# Altium footprint library inductors.PCBLIB: 83 footprints (part 2 of 6)
Each footprint in its own frame and in the unit in brackets; x right, y up, seen from the top. Pads: shape width x height; smd on the part's side, far side on the other; paste and mask are expansions set on the pad; w line width, h text height; cw(c..) or ccw(c..) is an arc to the next point about the centre after c.
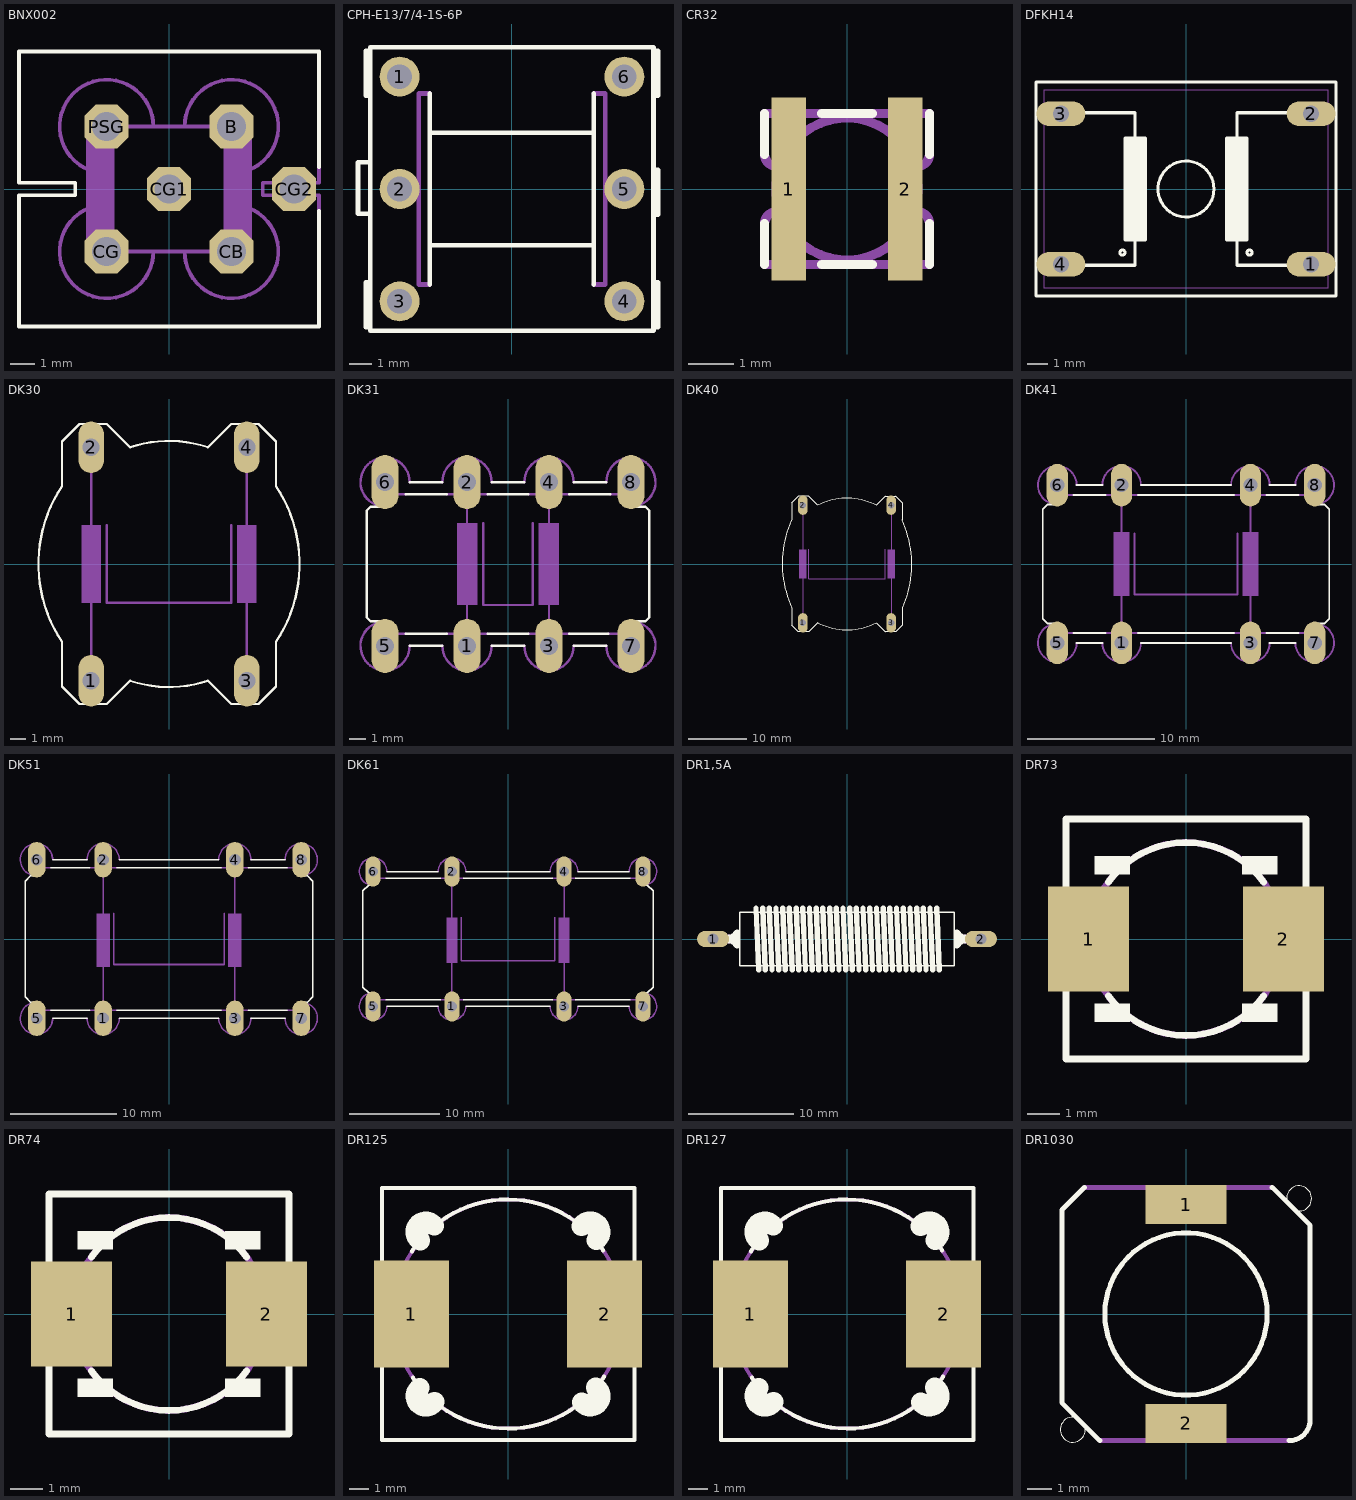
[diagram p1: the footprints below, top view; thin cyan lines are the x and y axes]

## BNX002 [mil]
pads (6):
  oct 70.5x70.5 hole 47: B(100,100) CB(100,-100) CG(-100,-100) CG1(0,0) CG2(200,0) PSG(-100,100)
Top Overlay:
  lines w6: 240,-35 240,-220 -240,-220 -240,-10 -150,-10 -150,10 -240,10 -240,220 240,220 240,35
Mechanical 16:
  rectangle: 90,-100 130,100
  rectangle: -130,-100 -90,100
  lines w6: -100,-25 ccw(c-100,-100) -25,-100 ; -100,25 cw(c-100,100) -25,100 ; 25,-100 ccw(c100,-100) 100,-25 ; 25,100 cw(c100,100) 100,25 ; 240,-35 240,-10 150,-10 150,10 240,10 240,35 ; -90,-100 90,-100 ; -90,-100 -90,100 ; -90,-100 -130,-100 -130,100 -90,100 ; -90,100 90,100 ; 90,-100 130,-100 130,100 90,100 ; 90,-100 90,100
  text "B" at 175,150 h77.5

## CPH-E13/7/4-1S-6P [mil]
pads (6):
  round 70 hole 43.31: 1(-196.85,196.85) 2(-196.85,0) 3(-196.85,-196.85) 4(196.85,-196.85) 5(196.85,0) 6(196.85,196.85)
Top Overlay:
  lines w8: -250,-242.13 -255.91,-242.13 -255.91,-163.39 -250,-163.39 ; -250,-43.31 -269.69,-43.31 -269.69,47.24 -250,47.24 ; -250,163.39 -255.91,163.39 -255.91,242.13 -250,242.13 ; -143.7,-167.32 -143.7,-98.43 ; -143.7,167.32 -143.7,98.43 ; 143.7,-167.32 143.7,-98.43 ; 143.7,167.32 143.7,98.43 ; 250,-242.13 255.91,-242.13 255.91,-163.39 250,-163.39 ; 250,-45.28 255.91,-45.28 255.91,33.46 250,33.46 ; 250,163.39 255.91,163.39 255.91,242.13 250,242.13 ; -143.7,-98.43 -143.7,98.43 ; -143.7,-98.43 143.7,-98.43 ; -143.7,98.43 143.7,98.43 ; 143.7,-98.43 143.7,98.43 ; -248.03,-248.03 248.03,-248.03 248.03,248.03 -248.03,248.03 -248.03,-248.03
Mechanical 16:
  lines w8: -143.7,-167.32 -163.39,-167.32 -163.39,167.32 -143.7,167.32 ; 143.7,-167.32 163.39,-167.32 163.39,167.32 143.7,167.32

## CR32 [mm]
pads (2):
  rect 0.75x4 smd: 1(-1.275,0) 2(1.275,0)
Top Overlay:
  lines w0.203: -1.8,-1.65 -1.8,-0.754 ; -1.8,0.754 -1.8,1.65 ; -0.55,-1.65 0.55,-1.65 ; -0.55,1.65 0.55,1.65 ; 1.8,-1.65 1.8,-0.754 ; 1.8,0.754 1.8,1.65
Top Paste:
  rectangle: -1.625,0.95 -0.925,1.95
  rectangle: 0.925,0.95 1.625,1.95
  region: 1.625,-0.95 0.925,-0.95 0.925,-1.95 1.625,-1.95
  region: -0.925,-0.95 -1.625,-0.95 -1.625,-1.95 -0.925,-1.95
Top Solder:
  rectangle: -1.725,0.875 -0.825,2.075
  rectangle: 0.825,0.875 1.725,2.075
  region: -0.825,-0.875 -1.725,-0.875 -1.725,-2.075 -0.825,-2.075
  region: 1.725,-0.875 0.825,-0.875 0.825,-2.075 1.725,-2.075
Mechanical 16:
  circle w0.203: c0,0 r1.55
  lines w0.203: -1.8,-1.65 1.8,-1.65 ; -1.8,-0.754 cw(c-1.546,-0.754) -1.546,-0.5 -1.5,-0.5 ; -1.8,0.754 ccw(c-1.546,0.754) -1.546,0.5 -1.5,0.5 ; -1.8,1.65 1.8,1.65 ; 1.5,-0.5 1.546,-0.5 cw(c1.546,-0.754) 1.8,-0.754 ; 1.5,0.5 1.546,0.5 ccw(c1.546,0.754) 1.8,0.754

## DFKH14 [mil]
pads (4):
  oval 96x48 hole 32: 1(246,-148) 2(246,148) 3(-246,148) 4(-246,-148)
Top Overlay:
  circle w6: c125,-125 r5
  circle w6: c-125,-125 r5
  circle w6: c0,0 r55
  rectangle: -120,-100 -80,100
  rectangle: 80,-100 120,100
  lines w6: -205,-150 -100,-150 -100,-100 ; -205,150 -100,150 -100,100 ; 100,100 100,150 205,150 ; 205,-150 100,-150 100,-100 ; -100,-100 -120,-100 -120,100 -100,100 ; -100,-100 -80,-100 -80,100 -100,100 ; 100,-100 120,-100 120,100 80,100 80,-100 100,-100 ; -295,-210 295,-210 295,210 -295,210 -295,-210
Mechanical 16:
  lines w2: -280,-195 280,-195 280,195 -280,195 -280,-195

## DK30 [mil]
pads (4):
  oval 66x132 hole 44: 1(-200,-300) 2(-200,300) 3(200,-300) 4(200,300)
Top Overlay:
  lines w6: -100,-300 -160,-360 -230,-360 -275,-315 -275,-200 cw(c25,0) -275,200 -275,315 -230,360 -160,360 -100,300 cw(c0,0) 98.36,300.54 ; -98.36,-300.54 ccw(c0,0) 100,-300 160,-360 230,-360 275,-315 275,-200 ccw(c-25,0) 275,200 275,315 230,360 160,360 100,300
Mechanical 16:
  rectangle: 175,-100 225,100
  rectangle: -225,-100 -175,100
  lines w6: -200,-250 -200,-100 ; -200,100 -200,250 ; -160,100 -160,-100 160,-100 160,100 ; 200,-250 200,-100 ; 200,100 200,250

## DK31 [mil]
pads (8):
  oval 66x132 hole 44: 1(-100,-200) 2(-100,200) 3(100,-200) 4(100,200) 5(-300,-200) 6(-300,200) 7(300,-200) 8(300,200)
Top Overlay:
  lines w6: -300,-140 -335,-140 -345,-130 -345,130 -335,140 -300,140 ; -250,-170 -150,-170 ; -250,170 -150,170 ; -240,-200 -160,-200 ; -240,200 -160,200 ; -50,-170 50,-170 ; -50,170 50,170 ; -40,-200 40,-200 ; -40,200 40,200 ; 150,-170 245,-170 ; 150,170 250,170 ; 160,-200 240,-200 ; 160,200 240,200 ; 300,-140 335,-140 345,-130 345,130 335,140 300,140
Mechanical 16:
  rectangle: 75,-100 125,100
  rectangle: -125,-100 -75,100
  lines w6: -250,-170 -270,-170 -300,-140 ccw(c-300,-200) -240,-200 ; -250,170 -270,170 -300,140 cw(c-300,200) -240,200 ; -160,-200 ccw(c-100,-200) -40,-200 ; -160,200 cw(c-100,200) -40,200 ; -150,-170 -50,-170 ; -150,170 -50,170 ; -100,-155 -100,-100 ; -100,100 -100,155 ; -60,100 -60,-100 60,-100 60,100 ; 40,-200 ccw(c100,-200) 160,-200 ; 40,200 cw(c100,200) 160,200 ; 50,-170 150,-170 ; 50,170 150,170 ; 100,-155 100,-100 ; 100,100 100,155 ; 240,-200 ccw(c300,-200) 300,-140 270,-170 245,-170 ; 240,200 cw(c300,200) 300,140 270,170 250,170

## DK40 [mil]
pads (4):
  oval 66x132 hole 44: 1(-300,-400) 2(-300,400) 3(300,-400) 4(300,400)
Top Overlay:
  lines w6: -377.55,298.33 ccw(c290,2) -375,-300 -375,-415 -330,-460 -260,-460 -200,-400 ccw(c0,0) 202.7,-398.64 ; -375,300 -375,415 -330,460 -260,460 -200,400 ; -202.7,398.64 cw(c0,0) 200,400 260,460 330,460 375,415 375,300 cw(c-290,-2) 377.55,-298.33 ; 200,-400 260,-460 330,-460 375,-415 375,-300
Mechanical 16:
  rectangle: 275,-100 325,100
  rectangle: -325,-100 -275,100
  lines w6: -300,-350 -300,-100 ; -300,100 -300,350 ; -260,100 -260,-100 260,-100 260,100 ; 300,-350 300,-100 ; 300,100 300,350

## DK41 [mil]
pads (8):
  oval 66x132 hole 44: 1(-200,-245) 2(-200,245) 3(200,-245) 4(200,245) 5(-400,-245) 6(-400,245) 7(400,-245) 8(400,245)
Top Overlay:
  lines w6: -400,-185 -430,-185 -445,-170 -445,170 -430,185 -400,185 ; -350,-215 -250,-215 ; -350,215 -250,215 ; -340,-245 -260,-245 ; -340,245 -260,245 ; -150,-215 150,-215 ; -150,215 150,215 ; -140,-245 140,-245 ; -140,245 140,245 ; 250,-215 350,-215 ; 250,215 350,215 ; 260,-245 340,-245 ; 260,245 340,245 ; 400,-185 430,-185 445,-170 445,170 430,185 400,185
Mechanical 16:
  rectangle: 175,-100 225,100
  rectangle: -225,-100 -175,100
  lines w6: -350,-215 -370,-215 -400,-185 ccw(c-400,-245) -340,-245 ; -350,215 -370,215 -400,185 cw(c-400,245) -340,245 ; -260,-245 ccw(c-200,-245) -140,-245 ; -260,245 cw(c-200,245) -140,245 ; -250,-215 -150,-215 ; -250,215 -150,215 ; -200,-200 -200,-95 ; -200,95 -200,200 ; -160,95 -160,-95 160,-95 160,95 ; 140,-245 ccw(c200,-245) 260,-245 ; 140,245 cw(c200,245) 260,245 ; 150,-215 250,-215 ; 150,215 250,215 ; 200,-200 200,-95 ; 200,95 200,200 ; 340,-245 ccw(c400,-245) 400,-185 370,-215 350,-215 ; 340,245 cw(c400,245) 400,185 370,215 350,215

## DK51 [mil]
pads (8):
  oval 66x132 hole 44: 1(-245,-295) 2(-245,295) 3(245,-295) 4(245,295) 5(-492,-295) 6(-492,295) 7(492,-295) 8(492,295)
Top Overlay:
  lines w6: -493,-235 -515,-235 -535,-215 -535,215 -515,235 -493,235 ; -440,-265 -295,-265 ; -440,265 -295,265 ; -433,-295 -305,-295 ; -433,295 -305,295 ; -195,-265 195,-265 ; -195,265 195,265 ; -185,-295 185,-295 ; -185,295 185,295 ; 295,-265 440,-265 ; 295,265 440,265 ; 305,-295 432,-295 ; 305,295 432,295 ; 492,-235 515,-235 535,-215 535,215 515,235 492,235
Mechanical 16:
  rectangle: 220,-105 270,95
  rectangle: -270,-105 -220,95
  lines w6: -440,-265 -463,-265 -493,-235 ccw(c-493,-295) -433,-295 ; -440,265 -463,265 -493,235 cw(c-493,295) -433,295 ; -305,-295 ccw(c-245,-295) -185,-295 ; -305,295 cw(c-245,295) -185,295 ; -295,-265 -195,-265 ; -295,265 -195,265 ; -245,-250 -245,-95 ; -245,95 -245,250 ; -205,95 -205,-95 205,-95 205,95 ; 185,-295 ccw(c245,-295) 305,-295 ; 185,295 cw(c245,295) 305,295 ; 195,-265 295,-265 ; 195,265 295,265 ; 245,-250 245,-95 ; 245,95 245,250 ; 432,-295 ccw(c492,-295) 492,-235 462,-265 440,-265 ; 432,295 cw(c492,295) 492,235 462,265 440,265

## DK61 [mil]
pads (8):
  oval 66x132 hole 44: 1(-245,-295) 2(-245,295) 3(245,-295) 4(245,295) 5(-590,-295) 6(-590,295) 7(590,-295) 8(590,295)
Top Overlay:
  lines w6: -590,-235 -610,-235 -635,-210 -635,210 -610,235 -590,235 ; -535,-265 -295,-265 ; -535,265 -295,265 ; -530,-295 -305,-295 ; -530,295 -305,295 ; -195,-265 195,-265 ; -195,265 195,265 ; -185,-295 185,-295 ; -185,295 185,295 ; 295,-265 535,-265 ; 295,265 535,265 ; 305,-295 530,-295 ; 305,295 530,295 ; 590,-235 610,-235 635,-210 635,210 610,235 590,235
Mechanical 16:
  rectangle: 220,-105 270,95
  rectangle: -270,-105 -220,95
  lines w6: -535,-265 -560,-265 -590,-235 ccw(c-590,-295) -530,-295 ; -535,265 -560,265 -590,235 cw(c-590,295) -530,295 ; -305,-295 ccw(c-245,-295) -185,-295 ; -305,295 cw(c-245,295) -185,295 ; -295,-265 -195,-265 ; -295,265 -195,265 ; -245,-250 -245,-95 ; -245,95 -245,250 ; -205,95 -205,-95 205,-95 205,95 ; 185,-295 ccw(c245,-295) 305,-295 ; 185,295 cw(c245,295) 305,295 ; 195,-265 295,-265 ; 195,265 295,265 ; 245,-250 245,-95 ; 245,95 245,250 ; 530,-295 ccw(c590,-295) 590,-235 560,-265 535,-265 ; 530,295 cw(c590,295) 590,235 560,265 535,265

## DR1,5A [mil]
pads (2):
  oval 120x60 hole 40: 1(-500,0) 2(500,0)
Top Overlay:
  rectangle: 400,-16 445,16
  rectangle: -445,-16 -400,16
  lines w6: -400,-100 -400,100 400,100 400,-100 -400,-100
  lines w20: -426,-10 -410,-26 -410,26 -426,10 ; -340,115 -330,-115 ; -315,115 -305,-115 ; -290,115 -280,-115 ; -265,115 -255,-115 ; -240,115 -230,-115 ; -215,115 -205,-115 ; -190,115 -180,-115 ; -165,115 -155,-115 ; -140,115 -130,-115 ; -115,115 -105,-115 ; -90,115 -80,-115 ; -65,115 -55,-115 ; -40,115 -30,-115 ; -15,115 -5,-115 ; 10,115 20,-115 ; 35,115 45,-115 ; 60,115 70,-115 ; 85,115 95,-115 ; 110,115 120,-115 ; 135,115 145,-115 ; 160,115 170,-115 ; 185,115 195,-115 ; 210,115 220,-115 ; 235,115 245,-115 ; 260,115 270,-115 ; 285,115 295,-115 ; 310,115 320,-115 ; 335,115 345,-115 ; 426,-10 410,-26 410,26 426,10
Mechanical 16:
  lines w32: -500,0 -440,0 ; 440,0 500,0

## DR73 [mm]
pads (2):
  rect 2.5x3.25 smd: 1(-3,0) 2(3,0)
Top Overlay:
  rectangle: -2.821,1.984 -1.722,2.559
  rectangle: -2.821,-2.559 -1.722,-1.984
  rectangle: 1.722,-2.559 2.821,-1.984
  rectangle: 1.722,1.984 2.821,2.559
  lines w0.203: -2.4,-1.75 ccw(c0.006,0) 0,-2.975 ccw(c-0.006,0) 2.4,-1.75 ; -2.4,1.75 cw(c0.006,0) 0,2.975 cw(c-0.006,0) 2.4,1.75 ; -3.7,-3.7 3.7,-3.7 3.7,3.7 -3.7,3.7 -3.7,-3.7
Mechanical 16:
  circle w0.203: c0,0 r2.975

## DR74 [mm]
pads (2):
  rect 2.5x3.25 smd: 1(-3,0) 2(3,0)
Top Overlay:
  rectangle: -2.821,1.984 -1.722,2.559
  rectangle: -2.821,-2.559 -1.722,-1.984
  rectangle: 1.722,-2.559 2.821,-1.984
  rectangle: 1.722,1.984 2.821,2.559
  lines w0.203: -2.4,-1.75 ccw(c0.006,0) 0,-2.975 ccw(c-0.006,0) 2.4,-1.75 ; -2.4,1.75 cw(c0.006,0) 0,2.975 cw(c-0.006,0) 2.4,1.75 ; -3.7,-3.7 3.7,-3.7 3.7,3.7 -3.7,3.7 -3.7,-3.7
Mechanical 16:
  circle w0.203: c0,0 r2.975

## DR125 [mil]
pads (2):
  rect 151.57x216.54 smd: 1(-195.87,0) 2(195.87,0)
Top Overlay:
  lines w8: -194.88,126.97 cw(c-0.37,0) 0,232.28 cw(c-0.29,0) 192.91,128.94 ; -192.91,-128.94 ccw(c0.29,0) 0,-232.28 ccw(c0.37,0) 194.88,-126.97 ; -255.91,-255.91 256.89,-255.91 256.89,255.91 -255.91,255.91 -255.91,-255.91
  lines w40: -178.86,-149.63 ccw(c-166.68,-166.82) -148.94,-178.17 ; -178.17,148.94 cw(c-166.82,166.68) -149.63,178.86 ; 148.94,178.17 cw(c166.68,166.82) 178.86,149.63 ; 149.63,-178.86 ccw(c166.82,-166.68) 178.17,-148.94
Mechanical 16:
  circle w8: c0,0 r232.28

## DR127 [mil]
pads (2):
  rect 151.57x216.54 smd: 1(-195.87,0) 2(195.87,0)
Top Overlay:
  lines w8: -194.88,126.97 cw(c-0.37,0) 0,232.28 cw(c-0.29,0) 192.91,128.94 ; -192.91,-128.94 ccw(c0.29,0) 0,-232.28 ccw(c0.37,0) 194.88,-126.97 ; -255.91,-255.91 256.89,-255.91 256.89,255.91 -255.91,255.91 -255.91,-255.91
  lines w40: -178.86,-149.63 ccw(c-166.68,-166.82) -148.94,-178.17 ; -178.17,148.94 cw(c-166.82,166.68) -149.63,178.86 ; 148.94,178.17 cw(c166.68,166.82) 178.86,149.63 ; 149.63,-178.86 ccw(c166.82,-166.68) 178.17,-148.94
Mechanical 16:
  circle w8: c0,0 r232.28

## DR1030 [mil]
pads (2):
  rect 129.92x62.99 smd: 1(0,175.2) 2(0,-175.2)
Top Overlay:
  circle w0: c181.1,185.04 r20.07
  circle w0: c-181.1,-185.04 r20.07
  circle w8: c0,0 r129.92
  lines w8: -162.63,202.76 -198.82,166.57 -198.82,-141.96 -138.02,-202.76 ; 138.02,202.76 198.82,141.96 198.82,-169.24 cw(c165.3,-169.24) 165.3,-202.76
Mechanical 16:
  lines w8: -162.63,202.76 138.02,202.76 ; -138.02,-202.76 165.3,-202.76